# Altium schematic symbol library ABS07-32.768KHZ-T.SchLib: 1 symbol
Pins are listed as number, name and electrical type; pins without a type are passive.

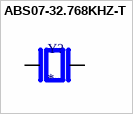
[diagram p0: symbol ABS07-32.768KHZ-T]

## ABS07-32.768KHZ-T
designator Y?
<a href="https://pricing.snapeda.com/parts/ABS07-32.768KHZ-T/Abracon%20LLC/view-part?ref=eda">Check availability</a> <a href="https://pricing.snapeda.com/parts/ABS07-32.768KHZ-T/Abracon%20LLC/view-part?ref=eda">Check availability</a>; MF: {'manufacturer': u'SHENZHEN YANGXING TECHNOLOGY CO., LTD.'}; Package: None; Price: None; Value: *; MP: ABS07-32.768KHZ-T; Availability: Unavailable
footprint XTAL_ABS07-32.768KHZ-T
pins: 1, 2